# Altium schematic symbol library AS5050A.SchLib: 1 symbol
Pins are listed as number, name and electrical type; pins without a type are passive.

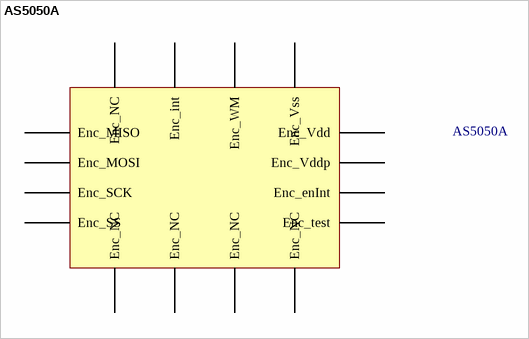
[diagram p0: symbol AS5050A]

## AS5050A
designator AS5050A  (value not drawn)
footprint AS5050A
pins: 1 Enc_MISO, 2 Enc_MOSI, 3 Enc_SCK, 4 Enc_SS, 5 Enc_NC, 6 Enc_NC, 7 Enc_NC, 8 Enc_NC, 9 Enc_test, 10 Enc_enInt, 11 Enc_Vddp, 12 Enc_Vdd, 13 Enc_Vss, 14 Enc_WM, 15 Enc_int, 16 Enc_NC